# Altium footprint library A.Shelestov_Connectors.PcbLib: 1 footprints
Each footprint in its own frame and in the unit in brackets; x right, y up, seen from the top. Pads: shape width x height; smd on the part's side, far side on the other; paste and mask are expansions set on the pad; w line width, h text height; cw(c..) or ccw(c..) is an arc to the next point about the centre after c.
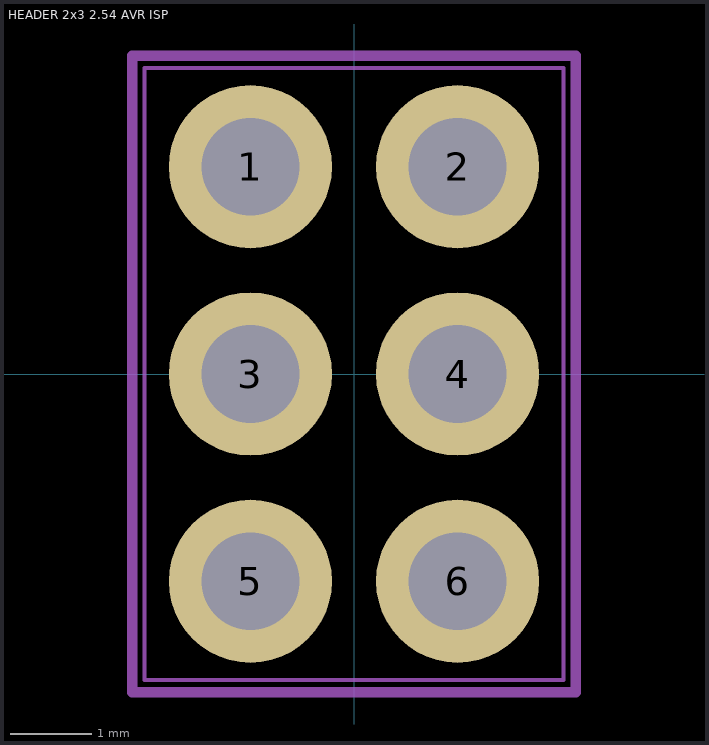
[diagram p0: the footprint, top view; thin cyan lines are the x and y axes]

## HEADER 2x3 2.54 AVR ISP [mm]
pads (6):
  round 2 hole 1.2: 1(-1.27,2.54) 2(1.27,2.54) 3(-1.27,0) 4(1.27,0) 5(-1.27,-2.54) 6(1.27,-2.54)
Mechanical 13:
  lines w0.05: -2.57,-3.75 -2.57,3.75 2.57,3.75 2.57,-3.75 -2.57,-3.75
  text ".Designator" at 0,3.81 h1.5
Mechanical 15:
  lines w0.127: -2.72,-3.9 -2.72,3.9 2.72,3.9 2.72,-3.9 -2.72,-3.9
3D body: height 2.65, standoff 0.05, extent -2.57,-1.2 0,1.2
3D body: height 2.65, standoff 0.05, extent 0,-1.2 2.57,1.2
3D body: height 2.65, standoff 0.05, extent -2.57,1.34 0,3.74
3D body: height 2.65, standoff 0.05, extent -2.57,-3.74 0,-1.34
3D body: height 2.65, standoff 0.05, extent 0,-3.74 2.57,-1.34
3D body: height 2.65, standoff 0.05, extent 0,1.34 2.57,3.74
3D body: height 2.5, standoff 0.2, extent 0,1.2 2.47,1.34
3D body: height 2.5, standoff 0.2, extent 0,-1.34 2.47,-1.2
3D body: height 11.8, standoff -2.9, extent 0.87,2.14 1.67,2.94
3D body: height 11.8, standoff -2.9, extent 0.87,-0.4 1.67,0.4
3D body: height 11.8, standoff -2.9, extent 0.87,-2.94 1.67,-2.14
3D body: height 11.8, standoff -2.9, extent -1.67,-2.94 -0.87,-2.14
3D body: height 11.8, standoff -2.9, extent -1.67,-0.4 -0.87,0.4
3D body: height 11.8, standoff -2.9, extent -1.67,2.14 -0.87,2.94
3D body: height 2.5, standoff 0.2, extent -2.47,1.2 0,1.34
3D body: height 2.5, standoff 0.2, extent -2.47,-1.34 0,-1.2